# Altium schematic symbol library DIY Air Quality Monitor Library.SchLib: 11 symbols
Pins are listed as number, name and electrical type; pins without a type are passive.

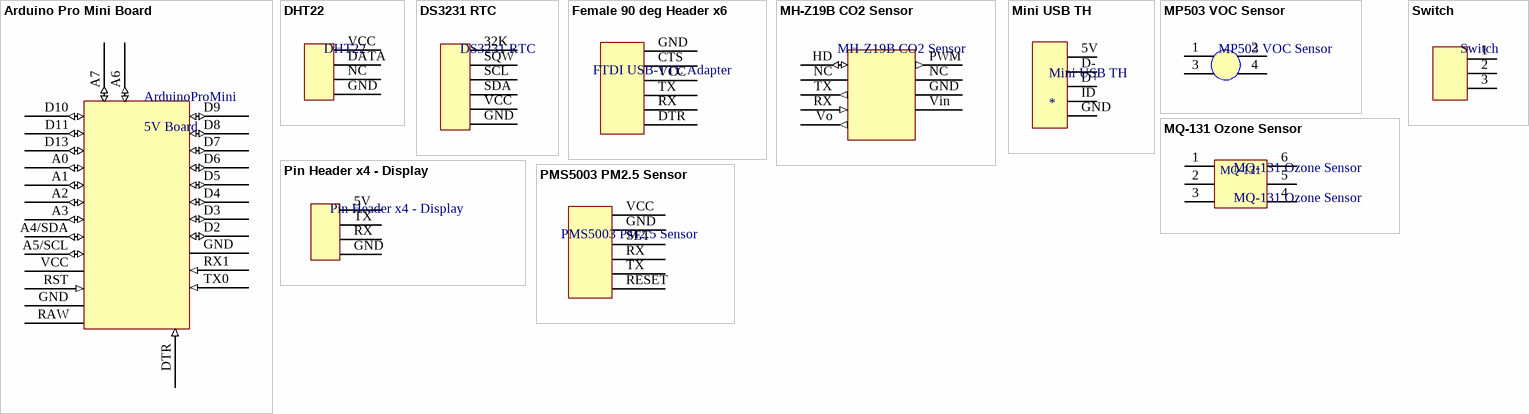
[diagram p0: symbols Arduino Pro Mini Board to Switch]

## Arduino Pro Mini Board
designator ArduinoProMini, comment 5V Board
footprint Arduino_Pro_Mini (5V Board)
pins: A0 (io), A1 (io), A2 (io), A3 (io), A4/SDA (io), A5/SCL (io), A6 (io), A7 (io), D2 (io), D3 (io), D4 (io), D5 (io), D6 (io), D7 (io), D8 (io), D9 (io), D10 (io), D11 (io), D13 (io), DTR (in), GND (power), GND (power), RAW (power), RST (in), RX1 (in), TX0 (in), VCC (power)

## DHT22
designator DHT22
footprint DHT22
pins: DATA, GND, NC, VCC

## DS3231 RTC
designator DS3231 RTC
footprint DS3231 RTC
pins: 32K, GND, SCL, SDA, SQW, VCC

## Female 90 deg Header x6
designator FTDI USB-TTL Adapter
footprint Female 90 deg Header x6
pins: CTS, DTR, GND, RX, TX, VCC

## MH-Z19B CO2 Sensor
designator MH-Z19B CO2 Sensor
footprint MH-Z19B CO2 Sensor
pins: GND (power), HD (io), NC, NC, PWM (out), RX (in), TX (out), Vin (power), Vo (out)

## Mini USB TH
designator Mini USB TH
footprint Mini USB TH
pins: 5V, D+, D-, GND, ID

## MP503 VOC Sensor
designator MP503 VOC Sensor
footprint MP503 VOC Sensor
pins: 1, 2, 3, 4

## MQ-131 Ozone Sensor
designator MQ-131 Ozone Sensor
footprint MQ-131 Ozone Sensor
pins: 1, 2, 3, 4, 5, 6
text: MQ-131

## Pin Header x4 - Display
designator Pin Header x4 - Display
footprint Pin Header x4 - Display
pins: 5V, GND, RX, TX

## PMS5003 PM2.5 Sensor
designator PMS5003 PM2.5 Sensor
footprint PMS5003 PM2.5 Sensor
pins: GND, RESET, RX, SET, TX, VCC

## Switch
designator Switch
footprint Switch
pins: 1, 2, 3